# EAGLE library part TC2030_ISP (library tag-connect)
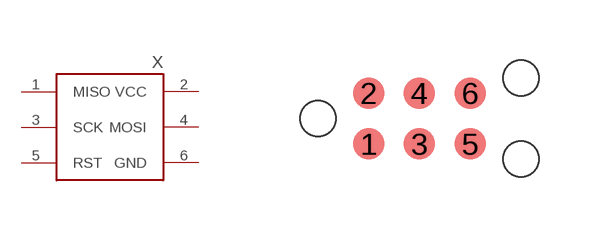
[diagram p3: symbol with the pads of TC2030-MCP-NL; footprint TC2030-MCP-NL]

Designator prefix X

## TC2030_ISP  [TC2030-MCP-NL]
1  MISO
2  VCC
3  SCK
4  MOSI
5  RST
6  GND

## Footprint TC2030-MCP-NL (pad centres in mm)
TAG-CONNECT ICSP Connector - Legged version Manufacturer: Tag-Connect <http://www.tag-connect.com> Cable for easy In-Circuit Serial Programming. Designed for Microchip ICD2, suitable for many others. NOTE: Eagle's default spacing for drill holes does not leave sufficent room for routing traces for this footprint and should be adjusted. This setting can be found in the board layout editor under the Edit menu. Select "Design Rules" and then the Distance tab. 8 mils for Drill/Hole works well. PAD Description 1 MCLR/Vpp 2 Vdd 3 GND 4 PGD (ISPDAT) 5 PGC (ISPCLK) 6 nc (used for LVP) ©2009 ROFA.cz - modified and updated by Robert Darlington ‹rdarlington@gmail.com›
smd 0.787 x 0.787: 1 -1.27,-0.635; 2 -1.27,0.635; 3 0,-0.635; 4 0,0.635; 5 1.27,-0.635; 6 1.27,0.635
hole 0.889 at -2.54,0
hole 0.889 at 2.54,-1.016
hole 0.889 at 2.54,1.016